# Altium footprint library PCB_TerminalBlock.PcbLib: 15 footprints
Each footprint in its own frame and in the unit in brackets; x right, y up, seen from the top. Pads: shape width x height; smd on the part's side, far side on the other; paste and mask are expansions set on the pad; w line width, h text height; cw(c..) or ccw(c..) is an arc to the next point about the centre after c.
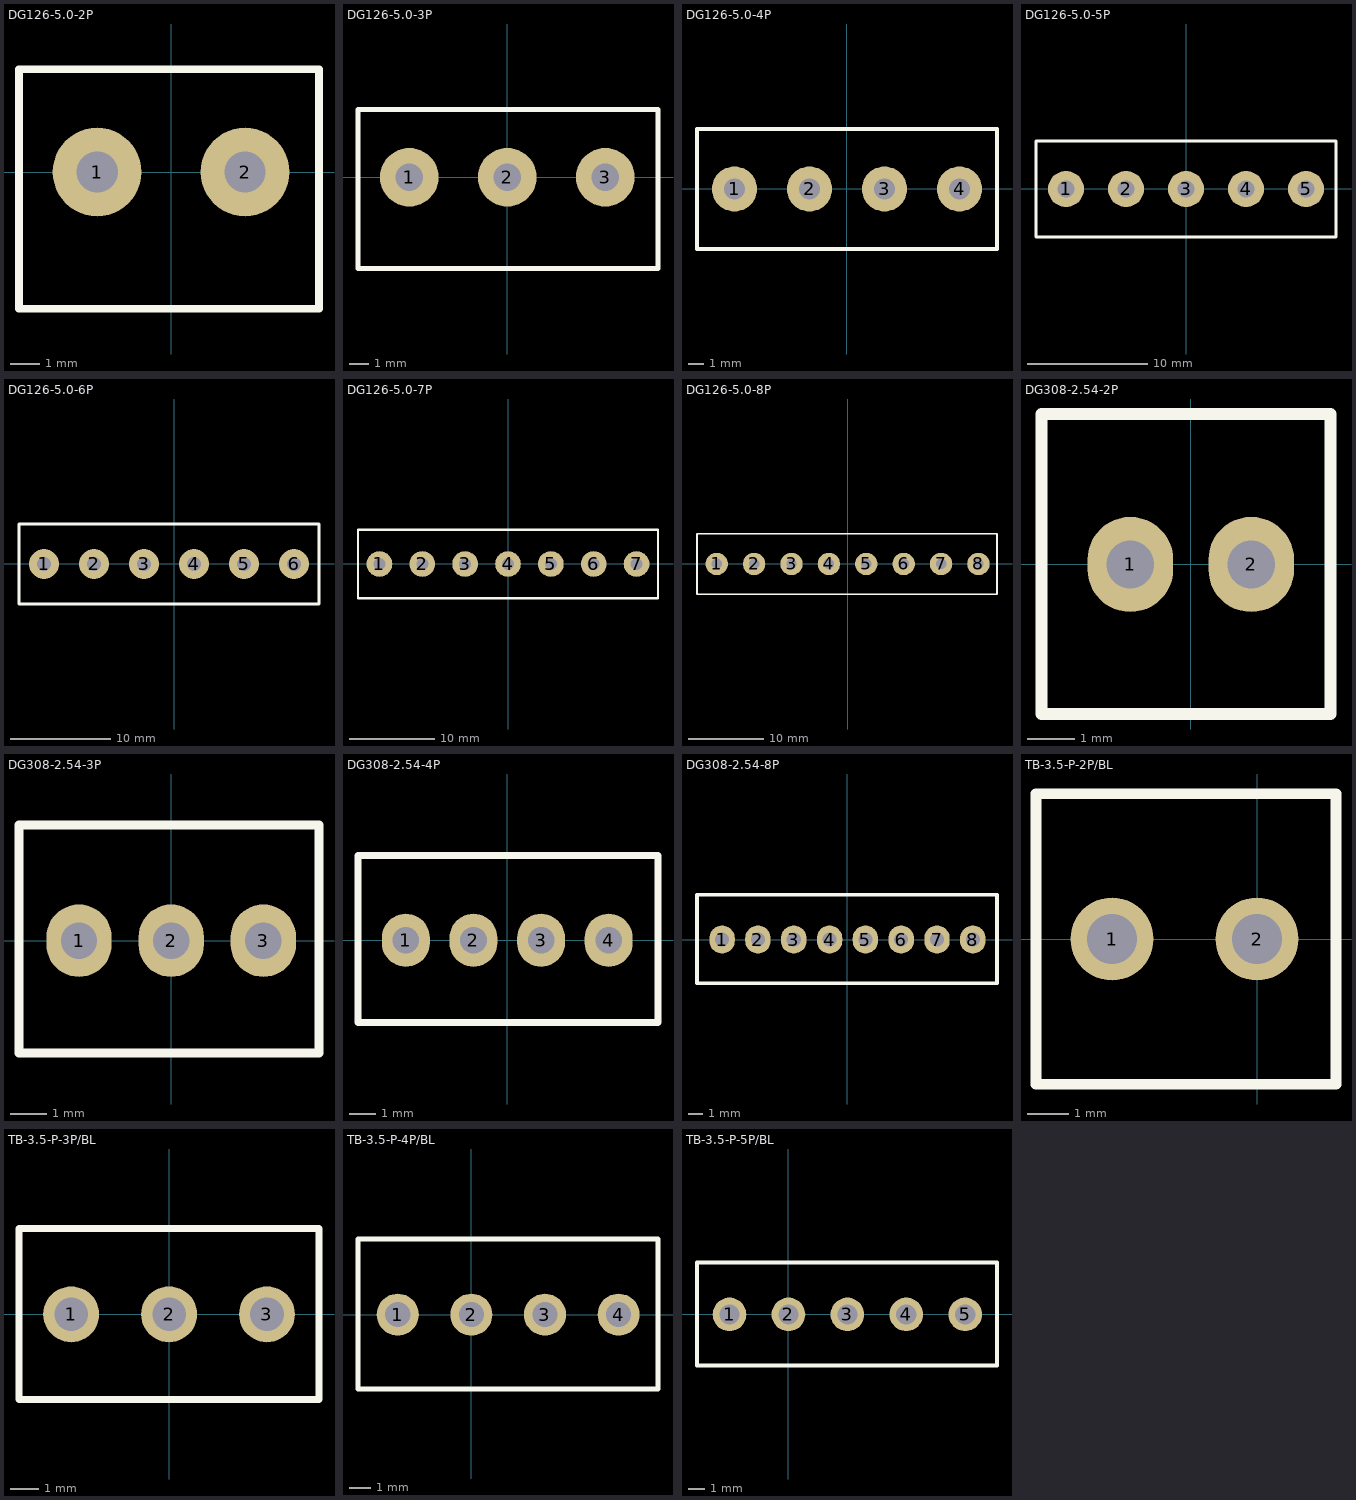
[diagram p0: the footprints below, top view; thin cyan lines are the x and y axes]

## DG126-5.0-2P [mm] "PCB terminal block"
height 10.2
pads (2):
  round 3 hole 1.4: 1(-2.5,0) 2(2.5,0)
Top Overlay:
  lines w0.254: -5.141,-4.621 5,-4.621 5,3.473 -5.141,3.473 -5.141,-4.621
3D body "User Library-DT126VP-02P.STEP": height 10.3, standoff -2.1, extent -5,-4.5 5.25,3.3

## DG126-5.0-3P [mm] "PCB terminal block"
height 10.2
pads (3):
  round 3 hole 1.4: 1(-5,0) 2(0,0) 3(5,0)
Top Overlay:
  lines w0.254: -7.62,-4.648 7.691,-4.648 7.691,3.448 -7.62,3.448 -7.62,-4.648
3D body "User Library-DT126VP-03P.STEP": height 10.2, standoff -2.2, extent -7.5,-4.5 7.75,3.3

## DG126-5.0-4P [mm] "PCB terminal block"
height 10.2
pads (4):
  round 3 hole 1.4: 1(-7.5,0) 2(-2.5,0) 3(2.5,0) 4(7.5,0)
Top Overlay:
  lines w0.254: -10,-4 10,-4 10,4 -10,4 -10,-4

## DG126-5.0-5P [mm] "PCB terminal block"
height 10.2
pads (5):
  round 3 hole 1.4: 1(-10,0) 2(-5,0) 3(0,0) 4(5,0) 5(10,0)
Top Overlay:
  lines w0.254: -12.5,-4 -12.5,4 12.5,4 12.5,-4 -12.5,-4

## DG126-5.0-6P [mm] "PCB terminal block"
height 10.2
pads (6):
  round 3 hole 1.4: 1(-13,0) 2(-8,0) 3(-3,0) 4(2,0) 5(7,0) 6(12,0)
Top Overlay:
  lines w0.254: -15.5,-4 14.5,-4 14.5,4 -15.5,4 -15.5,-4

## DG126-5.0-7P [mm] "PCB terminal block"
height 10.2
pads (7):
  round 3 hole 1.4: 1(-15,0) 2(-10,0) 3(-5,0) 4(0,0) 5(5,0) 6(10,0) 7(15,0)
Top Overlay:
  lines w0.254: -17.5,-4 -17.5,4 17.5,4 17.5,-4 -17.5,-4

## DG126-5.0-8P [mm] "PCB terminal block"
height 10.2
pads (8):
  round 3 hole 1.4: 1(-17.5,0) 2(-12.5,0) 3(-7.5,0) 4(-2.5,0) 5(2.5,0) 6(7.5,0) 7(12.5,0) 8(17.5,0)
Top Overlay:
  lines w0.254: -20.138,-4.051 -20.138,4.042 19.982,4.042 19.982,-4.051 -20.138,-4.051
3D body "User Library-DT126VP-08P.STEP": height 10.3, standoff -2.1, extent -20.25,-3.9 20,3.9

## DG308-2.54-2P [mm] "PCB terminal block"
height 8.5
pads (2):
  oval 1.8x2 hole 1: 1(-1.27,0) 2(1.27,0)
Top Overlay:
  lines w0.254: -3.141,-3.141 2.938,-3.141 2.938,3.161 -3.141,3.161 -3.141,-3.141
3D body "User Library-DG308-2.step": height 7.83, standoff -4, extent -3.006,-3.011 2.794,3.011

## DG308-2.54-3P [mm] "PCB terminal block"
height 8.5
pads (3):
  oval 1.8x2 hole 1: 1(-2.54,0) 2(0,0) 3(2.54,0)
Top Overlay:
  lines w0.254: -4.195,-3.094 -4.195,3.188 4.073,3.188 4.073,-3.094 -4.195,-3.094
3D body "User Library-DG308-3.step": height 7.83, standoff -4, extent -4.063,-2.974 3.937,3.048

## DG308-2.54-4P [mm] "PCB terminal block"
height 8.5
pads (4):
  oval 1.8x2 hole 1: 1(-3.81,0) 2(-1.27,0) 3(1.27,0) 4(3.81,0)
Top Overlay:
  lines w0.254: -5.609,-3.091 -5.609,3.189 5.664,3.189 5.664,-3.091 -5.609,-3.091
3D body "User Library-DG308-4.step": height 7.83, standoff -4, extent -5.461,-2.974 5.539,3.048

## DG308-2.54-8P [mm] "PCB terminal block"
height 8.5
pads (8):
  oval 1.8x2 hole 1: 1(-8.89,0) 2(-6.35,0) 3(-3.81,0) 4(-1.27,0) 5(1.27,0) 6(3.81,0) 7(6.35,0) 8(8.89,0)
Top Overlay:
  lines w0.254: -10.672,-3.111 -10.672,3.19 10.604,3.19 10.604,-3.111 -10.672,-3.111
3D body "User Library-DG308-8.step": height 7.83, standoff -4, extent -10.515,-2.974 10.485,3.048

## TB-3.5-P-2P/BL [mm] "Клеммник; угловой 90°; 0,5?1,5мм2; 3,5мм; Контактные группы:2"
height 8.4
pads (2):
  round 2 hole 1.2: 1(-3.5,0) 2(0,0)
Top Overlay:
  lines w0.254: -5.334,-3.5 -5.334,3.5 1.905,3.5 1.905,-3.5 -5.334,-3.5
3D body "DG350-3 5-02P.step": height 8.5, standoff -3.3, extent -5.75,-3.4 2.25,3.4

## TB-3.5-P-3P/BL [mm] "Клеммник; угловой 90°; 0,5?1,5мм2; 3,5мм; Контактные группы:3"
height 8.4
pads (3):
  round 2 hole 1.2: 1(-3.5,0) 2(0,0) 3(3.5,0)
Top Overlay:
  lines w0.254: -5.366,-3.048 5.359,-3.048 5.359,3.073 -5.366,3.073 -5.366,-3.048
3D body "DG350-3_5-3.step": height 8.4, standoff -3.5, extent -5.75,-2.9 5.75,2.9

## TB-3.5-P-4P/BL [mm] "Клеммник; угловой 90°; 0,5?1,5мм2; 3,5мм; Контактные группы:4"
height 8.4
pads (4):
  round 2 hole 1.2: 1(-3.5,0) 2(0,0) 3(3.5,0) 4(7,0)
Top Overlay:
  lines w0.254: -5.39,-3.533 8.873,-3.533 8.873,3.591 -5.39,3.591 -5.39,-3.533
3D body "DG350-3 5-02P.step": height 8.4, standoff -3.4, extent -5.75,-3.4 2.25,3.4
3D body "DG350-3 5-02P.step": height 8.4, standoff -3.4, extent 1.25,-3.4 9.25,3.4

## TB-3.5-P-5P/BL [mm] "Клеммник; угловой 90°; 0,5?1,5мм2; 3,5мм; Контактные группы:5"
height 8.4
pads (5):
  round 2 hole 1.2: 1(-3.5,0) 2(0,0) 3(3.5,0) 4(7,0) 5(10.5,0)
Top Overlay:
  lines w0.254: -5.432,-3.042 12.389,-3.042 12.389,3.087 -5.432,3.087 -5.432,-3.042
3D body "DG350-3_5-3.step": height 8.4, standoff -3.5, extent -5.75,-2.9 5.75,2.9
3D body "DG350-3_5-3.step": height 8.4, standoff -3.5, extent 1.25,-2.9 12.75,2.9